# EAGLE library part RT9301 (library chips)
3-Channel Low Dropout RGB LED Driver
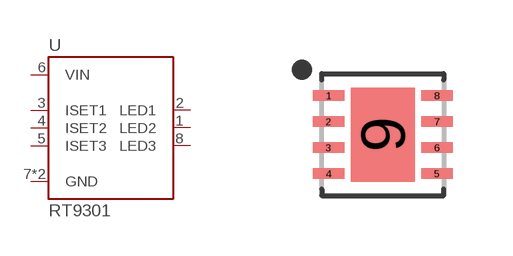
[diagram p113: symbol with the pads of WDFN-8L/3MM; footprint WDFN-8L/3MM]

Designator prefix U

## RT9301GJ8  [WDFN-8L/3MM]
1  LED2
2  LED1
3  ISET1
4  ISET2
5  ISET3
6  VIN
7  GND
8  LED3
9  GND

## Footprint WDFN-8L/3MM (pad centres in mm)
8-SON (DFN), 0.65 mm pitch, 3.00 X 3.00 X 0.80 mm body, 2.35 X 1.60 mm thermal pad 8-pin SON (DFN) package with 0.65 mm pitch with body size 3.00 X 3.00 X 0.80 mm and thermal pad size 2.35 X 1.60 mm
smd 0.785 x 0.27: 1 -1.358,0.975; 2 -1.358,0.325; 3 -1.358,-0.325; 4 -1.358,-0.975; 5 1.358,-0.975; 6 1.358,-0.325; 7 1.358,0.325; 8 1.358,0.975
smd 1.6 x 2.35: 9 0,0